# Altium schematic symbol library LED_Red.SchLib: 1 symbol
Pins are listed as number, name and electrical type; pins without a type are passive.

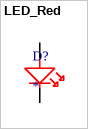
[diagram p0: symbol LED_Red]

## LED_Red
designator D?
pins: A, C